# Altium schematic symbol library altium-lib-symbol.SchLib: 29 symbols
Pins are listed as number, name and electrical type; pins without a type are passive.

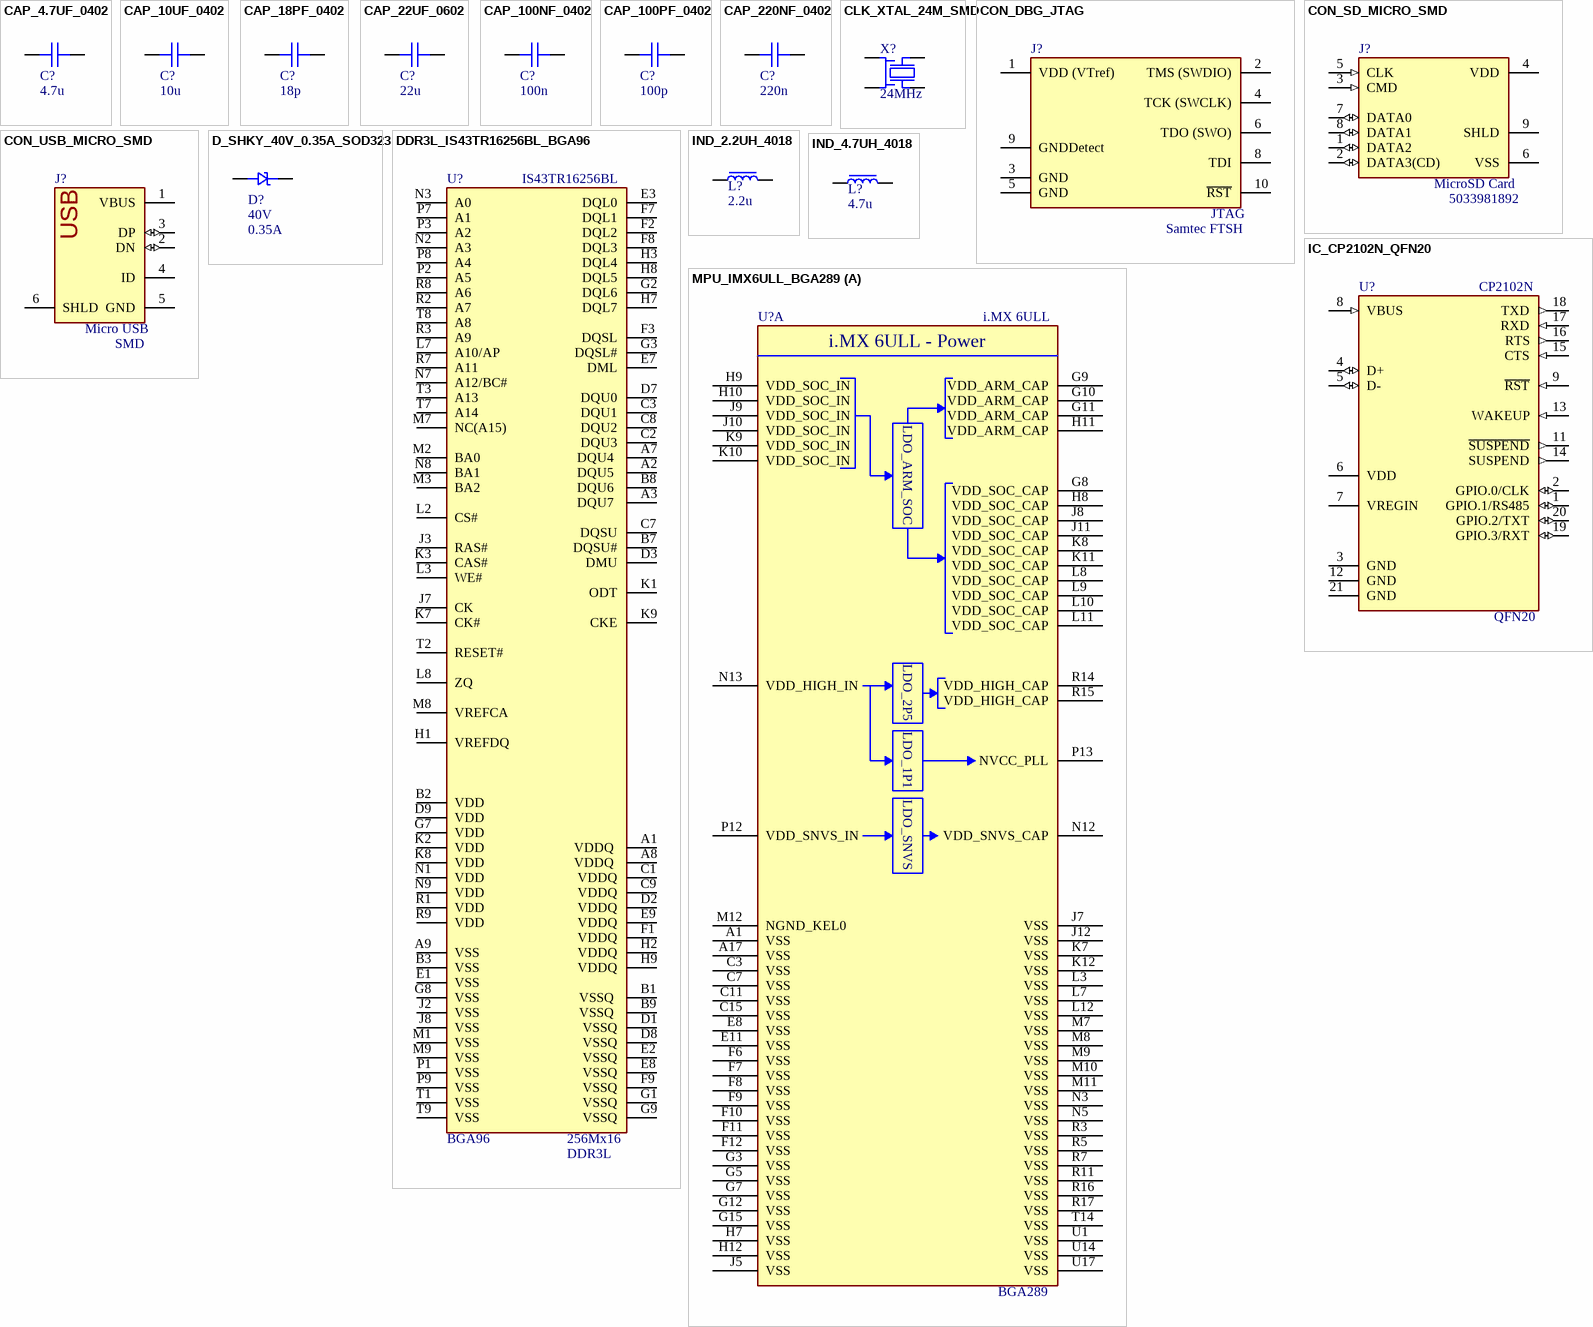
[diagram p0: symbols CAP_4.7UF_0402 to MPU_IMX6ULL_BGA289]

## CAP_4.7UF_0402
designator C?  5. Value 1: 4.7u  (hidden comment: *)
Capacitor, 4.7uF, 6.3V, 0402; 4. Manufacturer: Samsung Electro-Mechnics; 3. Product Number: CL05A475KQ5NRNC; 7. Value 3: X5R; 2. Footprint: 0603; 6. Value 2: 6.3V; 1. Function: Capacitor; 9. Creation Date: 25.03.2022; ComponentLink1Description: 8. Datasheet URL; ComponentLink1URL: https://datasheet.octopart.com/CL05A475KQ5NRNC-Samsung-datasheet-26589014.pdf
footprint CAP_0402 (Universal 0402 Capacitor Footprint)
pins: 1, 2

## CAP_10UF_0402
designator C?  5. Value 1: 10u  (hidden comment: *)
Capacitor, 10uF, 6.3V, 0402; 4. Manufacturer: Samsung Electro-Mechnics; 3. Product Number: CL05A106MQ5NUNC; 7. Value 3: X5R; 2. Footprint: 0603; 6. Value 2: 6.3V; 1. Function: Capacitor; 9. Creation Date: 25.03.2022; ComponentLink1Description: 8. Datasheet URL; ComponentLink1URL: https://datasheet.octopart.com/CL05A106MQ5NUNC-Samsung-datasheet-42280528.pdf
footprint CAP_0402 (Universal 0402 Capacitor Footprint)
pins: 1, 2

## CAP_18PF_0402
designator C?  5. Value 1: 18p  (hidden comment: *)
Capacitor, 18pF, 50V, 0402; 4. Manufacturer: KEMET; 3. Product Number: C0402C180J5GACTU; 2. Footprint: 0402; 6. Value 2: 50V; 1. Function: Capacitor; 7. Value 3: *; 9. Creation Date: 02.04.2022; ComponentLink1Description: 8. Datasheet URL; ComponentLink1URL: https://api.kemet.com/component-edge/download/specsheet/C0402C180J5GACTU.pdf
footprint CAP_0402 (Universal 0402 Capacitor Footprint)
pins: 1, 2

## CAP_22UF_0602
designator C?  5. Value 1: 22u  (hidden comment: *)
Capacitor, 22uF, 6.3V, 0603; 4. Manufacturer: Samsung Electro-Mechnics; 3. Product Number: CL10A226MQ8NRNC; 7. Value 3: X5R; 2. Footprint: 0603; 6. Value 2: 6.3V; 1. Function: Capacitor; 9. Creation Date: 18.03.2022; ComponentLink1Description: 8. Datasheet URL; ComponentLink1URL: https://datasheet.octopart.com/CL10A226MQ8NRNC-Samsung-Electro-Mechanics-datasheet-11788901.pdf
footprint CAP_0603 (Universal 0603 Capacitor Footprint)
pins: 1, 2

## CAP_100NF_0402
designator C?  5. Value 1: 100n  (hidden comment: *)
Capacitor, 100nF, 16V, 0402; 4. Manufacturer: Samsung Electro-Mechnics; 3. Product Number: CL05B104KO5NNNC; 7. Value 3: X7R; 2. Footprint: 0402; 6. Value 2: 16V; 1. Function: Capacitor; 9. Creation Date: 15.03.2022; ComponentLink1Description: 8. Datasheet URL; ComponentLink1URL: https://datasheet.octopart.com/CL05B104KO5NNNC-Samsung-Electro-Mechanics-datasheet-81461623.pdf
footprint CAP_0402 (Universal 0402 Capacitor Footprint)
pins: 1, 2

## CAP_100PF_0402
designator C?  5. Value 1: 100p  (hidden comment: *)
Capacitor, 100pF, 16V, 0402; 4. Manufacturer: Yageo; 3. Product Number: C0402C101K4GAC7867; 2. Footprint: 0402; 6. Value 2: 16V; 1. Function: Capacitor; 7. Value 3: *; 9. Creation Date: 15.03.2022; ComponentLink1Description: 8. Datasheet URL; ComponentLink1URL: https://www.yageo.com/upload/media/product/productsearch/datasheet/mlcc/UPY-GP_NP0_16V-to-50V_18.pdf
footprint CAP_0402 (Universal 0402 Capacitor Footprint)
pins: 1, 2

## CAP_220NF_0402
designator C?  5. Value 1: 220n  (hidden comment: *)
Capacitor, 220nF, 6.3V, 0402; 4. Manufacturer: Samsung Electro-Mechnics; 3. Product Number: CL05A224KQ5NNNC; 7. Value 3: X5R; 2. Footprint: 0603; 6. Value 2: 6.3V; 1. Function: Capacitor; 9. Creation Date: 25.03.2022; ComponentLink1Description: 8. Datasheet URL; ComponentLink1URL: https://datasheet.octopart.com/CL05A475KQ5NRNC-Samsung-datasheet-26589014.pdf
footprint CAP_0402 (Universal 0402 Capacitor Footprint)
pins: 1, 2

## CLK_XTAL_24M_SMD
designator X?  5. Value 1: 24MHz  (hidden comment: *)
Quartz crystal, 24 MHz; 4. Manufacturer: ECS; 3. Product Number: ECS-240-12-37B-CKY-TR; 2. Footprint: SMD; 6. Value 2: *; 1. Function: Crystal; 7. Value 3: *; 9. Creation Date: 02.04.2022; ComponentLink1Description: 8. Datasheet URL; ComponentLink1URL: https://ecsxtal.com/store/pdf/ECX-1637B.pdf
footprint CLK_2016 (SMD Clock generator, 2.0x1.6mm)
pins: 1, 2, 3, 4

## CON_DBG_JTAG
designator J?  2. Footprint: Samtec FTSH  5. Value 1: JTAG  (hidden comment: *)
JTAG Debug Connector; 4. Manufacturer: Samtec; 3. Product Number: FTSH-105-01-L-DV-007-K; 1. Function: JTAG Debug Connector; 9. Creation Date: 04.04.2022; ComponentLink1Description: 8. Datasheet URL; ComponentLink1URL: https://www.keil.com/support/man/docs/ulinkpro/ulinkpro_cs_connectors.htm#!#Cortex10Pin; 7. Value 3: *; 6. Value 2: *
footprint CON_FTSH_HDR_2x5 (Samtec FTSH Connector Header, 0.127mm, 2x5)
pins: 1 VDD (VTref), 2 TMS (SWDIO), 3 GND, 4 TCK (SWCLK), 5 GND, 6 TDO (SWO), 8 TDI, 9 GNDDetect, 10 ~{RST}

## CON_SD_MICRO_SMD
designator J?  3. Product Number: 5033981892  5. Value 1: MicroSD Card  (hidden comment: *)
MicroSD Card Holder; 4. Manufacturer: Molex; 2. Footprint: SMD; 1. Function: MicroSD Card Holder; 9. Creation Date: 04.04.2022; ComponentLink1Description: 8. Datasheet URL; ComponentLink1URL: https://www.molex.com/pdm_docs/sd/5033981892_sd.pdf; 7. Value 3: *; 6. Value 2: *
footprint CON_SD_MICRO (MicroSD Card Holder)
pins: 1 DATA2 (io), 2 DATA3(CD) (io), 3 CMD (in), 4 VDD (power), 5 CLK (in), 6 VSS (power), 7 DATA0 (io), 8 DATA1 (io), 9 SHLD (power)

## CON_USB_MICRO_SMD
designator J?  2. Footprint: SMD  5. Value 1: Micro USB  (hidden comment: *)
Micro USB Connector; 4. Manufacturer: Amphenol CS; 3. Product Number: 10118194-0001LF; 1. Function: Micro USB Connector; 9. Creation Date: 02.04.2022; ComponentLink1Description: 8. Datasheet URL; ComponentLink1URL: https://cdn.amphenol-cs.com/media/wysiwyg/files/drawing/10118194.pdf; 7. Value 3: *; 6. Value 2: *
footprint CON_USB_MICROB (Micro B USB Connector)
pins: 1 VBUS (power), 2 DN (io), 3 DP (io), 4 ID, 5 GND (power), 6 SHLD (power)
text: USB

## D_SHKY_40V_0.35A_SOD323
designator D?  6. Value 2: 0.35A  5. Value 1: 40V  (hidden comment: *)
Schottky Diode, 40V, 0.35A, SOD323; 4. Manufacturer: Vishay; 3. Product Number: SD103AWS-HE3-08; 1. Function: Schottky Diode; 7. Value 3: *; 9. Creation Date: 04.04.2022; 2. Footprint: SOD323; ComponentLink1Description: 8. Datasheet URL; ComponentLink1URL: https://www.vishay.com/docs/85682/sd103aws.pdf
footprint SOD323 (Diode SOD323)
pins: A, K

## DDR3L_IS43TR16256BL_BGA96
designator U?  7. Value 3: DDR3L  6. Value 2: 256Mx16  2. Footprint: BGA96  5. Value 1: IS43TR16256BL  (hidden comment: *)
DDR3L RAM, 256Mx16, 4Gb, BGA96; 4. Manufacturer: ISSI; 3. Product Number: IS43TR16256BL; 1. Function: DDR3L RAM; 9. Creation Date: 25.03.2022; ComponentLink1Description: 8. Datasheet URL; ComponentLink1URL: https://www.issi.com/WW/pdf/43-46TR16256B-85120BL.pdf
footprint BGA96 (DDR3L) (BGA96, 0.8mm)
pins: A1 VDDQ , A2 DQU5 , A3 DQU7 , A7 DQU4 , A8 VDDQ , A9 VSS , B1 VSSQ , B2 VDD , B3 VSS , B7 DQSU#, B8 DQU6 , B9 VSSQ , C1 VDDQ, C2 DQU3, C3 DQU1, C7 DQSU, C8 DQU2, C9 VDDQ, D1 VSSQ, D2 VDDQ, D3 DMU, D7 DQU0, D8 VSSQ, D9 VDD, E1 VSS, E2 VSSQ, E3 DQL0, E7 DML, E8 VSSQ, E9 VDDQ, F1 VDDQ, F2 DQL2, F3 DQSL, F7 DQL1, F8 DQL3, F9 VSSQ, G1 VSSQ, G2 DQL6, G3 DQSL#, G7 VDD, G8 VSS, G9 VSSQ, H1 VREFDQ, H2 VDDQ, H3 DQL4, H7 DQL7, H8 DQL5, H9 VDDQ, J2 VSS, J3 RAS#, J7 CK, J8 VSS, K1 ODT, K2 VDD, K3 CAS#, K7 CK#, K8 VDD, K9 CKE, L2 CS#, L3 WE#, L7 A10/AP, L8 ZQ, M1 VSS, M2 BA0, M3 BA2, M7 NC(A15), M8 VREFCA, M9 VSS, N1 VDD, N2 A3, N3 A0, N7 A12/BC#, N8 BA1, N9 VDD, P1 VSS, P2 A5, P3 A2, P7 A1, P8 A4, P9 VSS, R1 VDD, R2 A7, R3 A9, R7 A11, R8 A6, R9 VDD, T1 VSS, T2 RESET#, T3 A13, T7 A14, T8 A8, T9 VSS, VDDQ  180 hidden to Passive

## IC_CP2102N_QFN20
designator U?  2. Footprint: QFN20  5. Value 1: CP2102N  (hidden comment: *)
USB to UART Bridge, QFN20; 4. Manufacturer: Silicon Labs; 3. Product Number: CP2102N-A02-GQFN20; 1. Function: USB to UART Bridge; 9. Creation Date: 02.04.2022; ComponentLink1Description: 8. Datasheet URL; ComponentLink1URL: https://www.silabs.com/documents/public/data-sheets/cp2102n-datasheet.pdf; 7. Value 3: *; 6. Value 2: *
footprint QFN20 (Silabs) (QFN20, 0.5mm, Silabs)
pins: 1 GPIO.1/RS485 (io), 2 GPIO.0/CLK (io), 3 GND (power), 4 D+ (io), 5 D- (io), 6 VDD (power), 7 VREGIN (power), 8 VBUS (in), 9 ~{RST} (in), 11 ~{SUSPEND} (out), 12 GND (power), 13 WAKEUP (in), 14 SUSPEND (out), 15 CTS (in), 16 RTS (out), 17 RXD (in), 18 TXD (out), 19 GPIO.3/RXT (io), 20 GPIO.2/TXT (io), 21 GND (power)

## IND_2.2UH_4018
designator L?  5. Value 1: 2.2u  (hidden comment: *)
Inductor, 2.2uH, 2.2A, 42mR, 4018; 4. Manufacturer: Taiyo Yuden; 3. Product Number: NRS4018T2R2MDGJ; 2. Footprint: 4018; 6. Value 2: 2.2A; 1. Function: Inductor; 7. Value 3: 42mR; 9. Creation Date: 15.03.2022; ComponentLink1Description: 8. Datasheet URL; ComponentLink1URL: https://www.yuden.co.jp/productdata/catalog/wound04_e.pdf
footprint IND_4018 (Inductor, 2018, Taiyo Yuden)
pins: 1, 2

## IND_4.7UH_4018
designator L?  5. Value 1: 4.7u  (hidden comment: *)
Inductor, 4.7uH, 1.7A, 84mR, 4018; 4. Manufacturer: Taiyo Yuden; 3. Product Number: NRS4018T4R7MDGJ; 7. Value 3: 83mR; 2. Footprint: 4018; 6. Value 2: 1.7A; 1. Function: Inductor; 9. Creation Date: 20.03.2022; ComponentLink1Description: 8. Datasheet URL; ComponentLink1URL: https://www.yuden.co.jp/productdata/catalog/wound04_e.pdf
footprint IND_4018 (Inductor, 2018, Taiyo Yuden)
pins: 1, 2

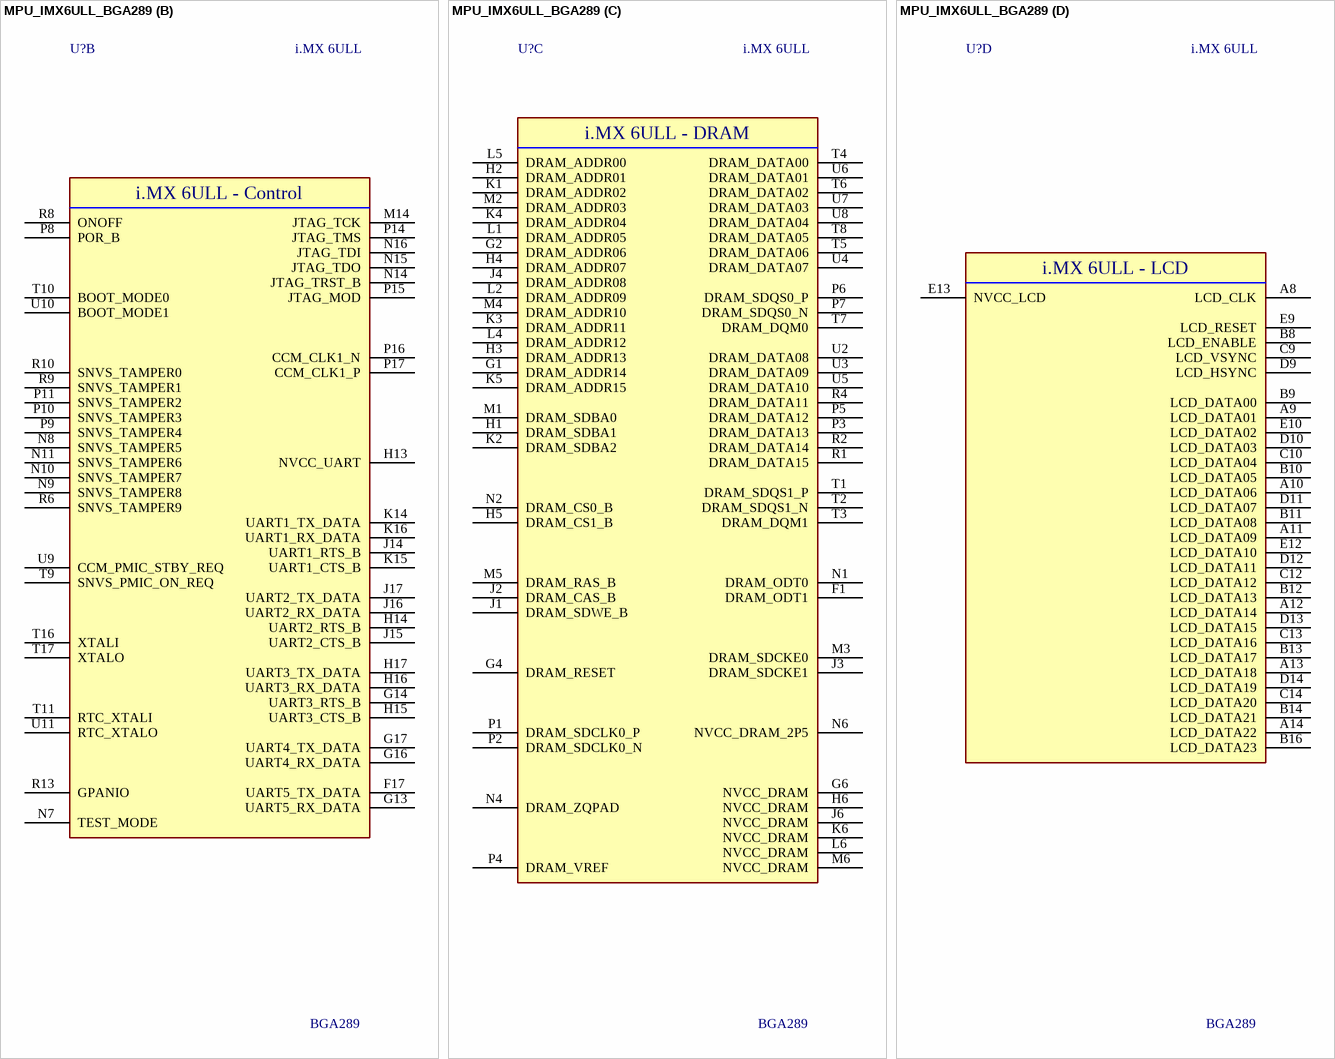
[diagram p1: symbol MPU_IMX6ULL_BGA289]

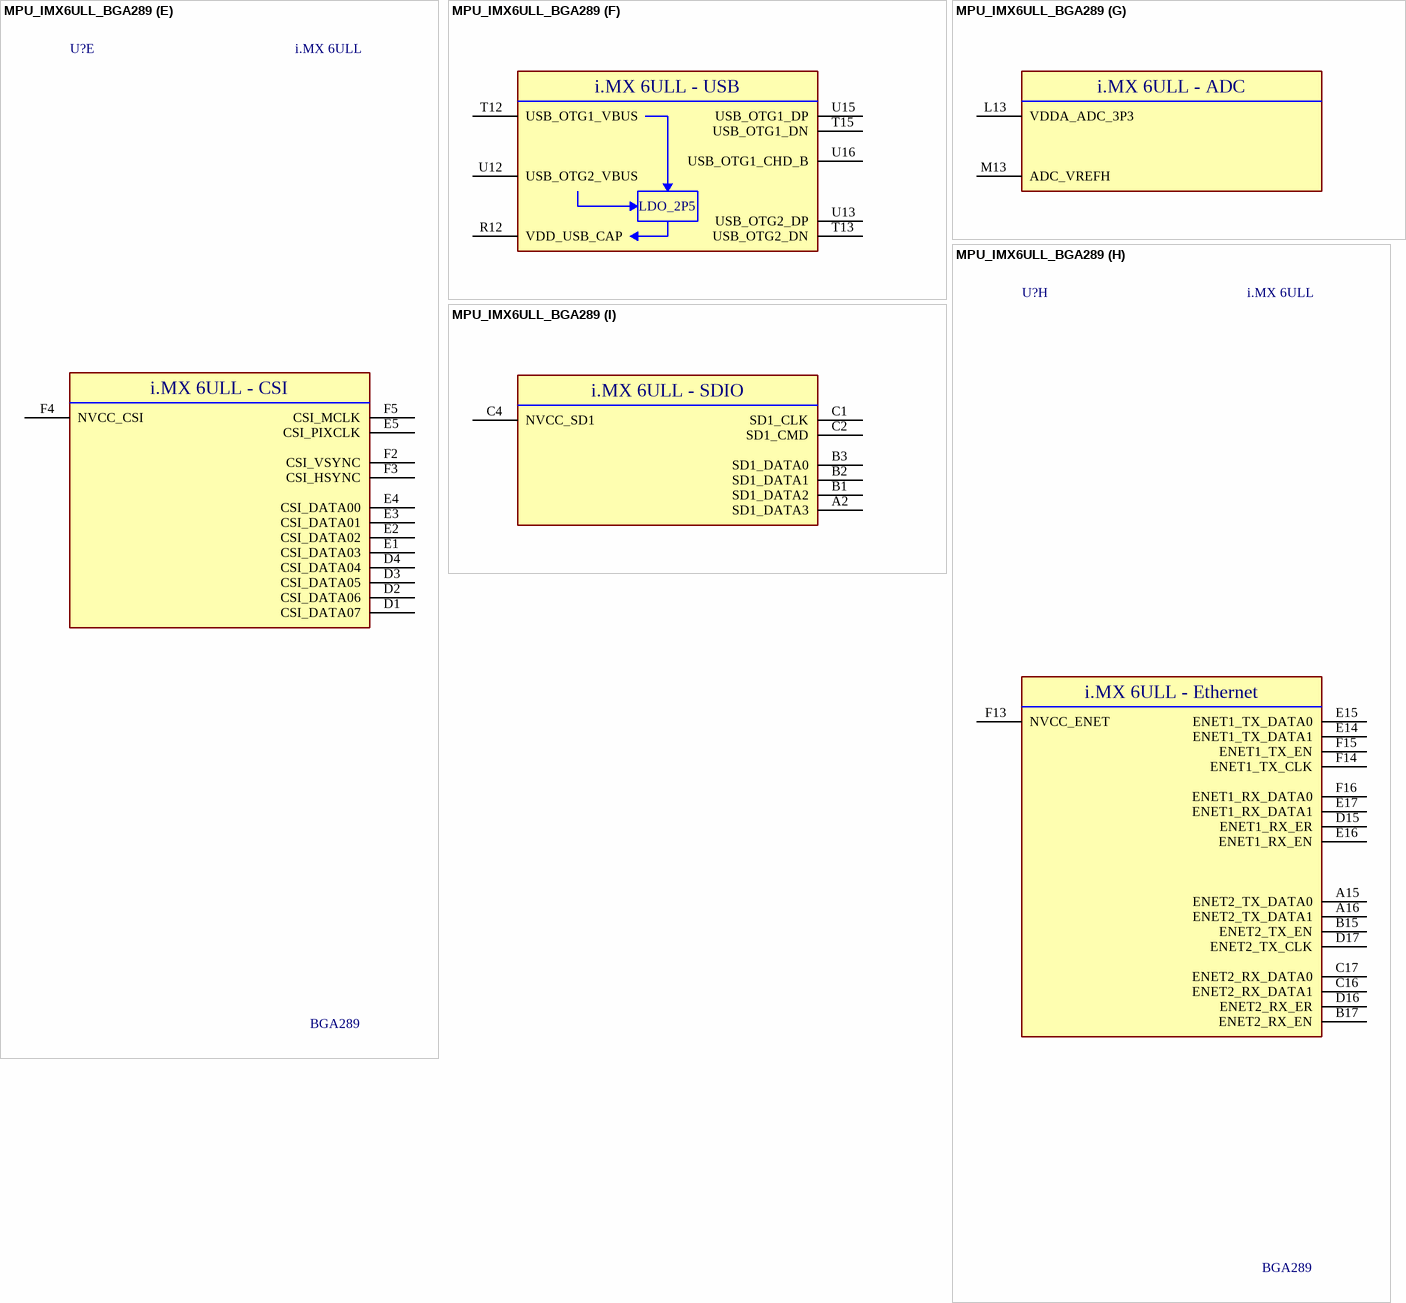
[diagram p2: symbol MPU_IMX6ULL_BGA289]

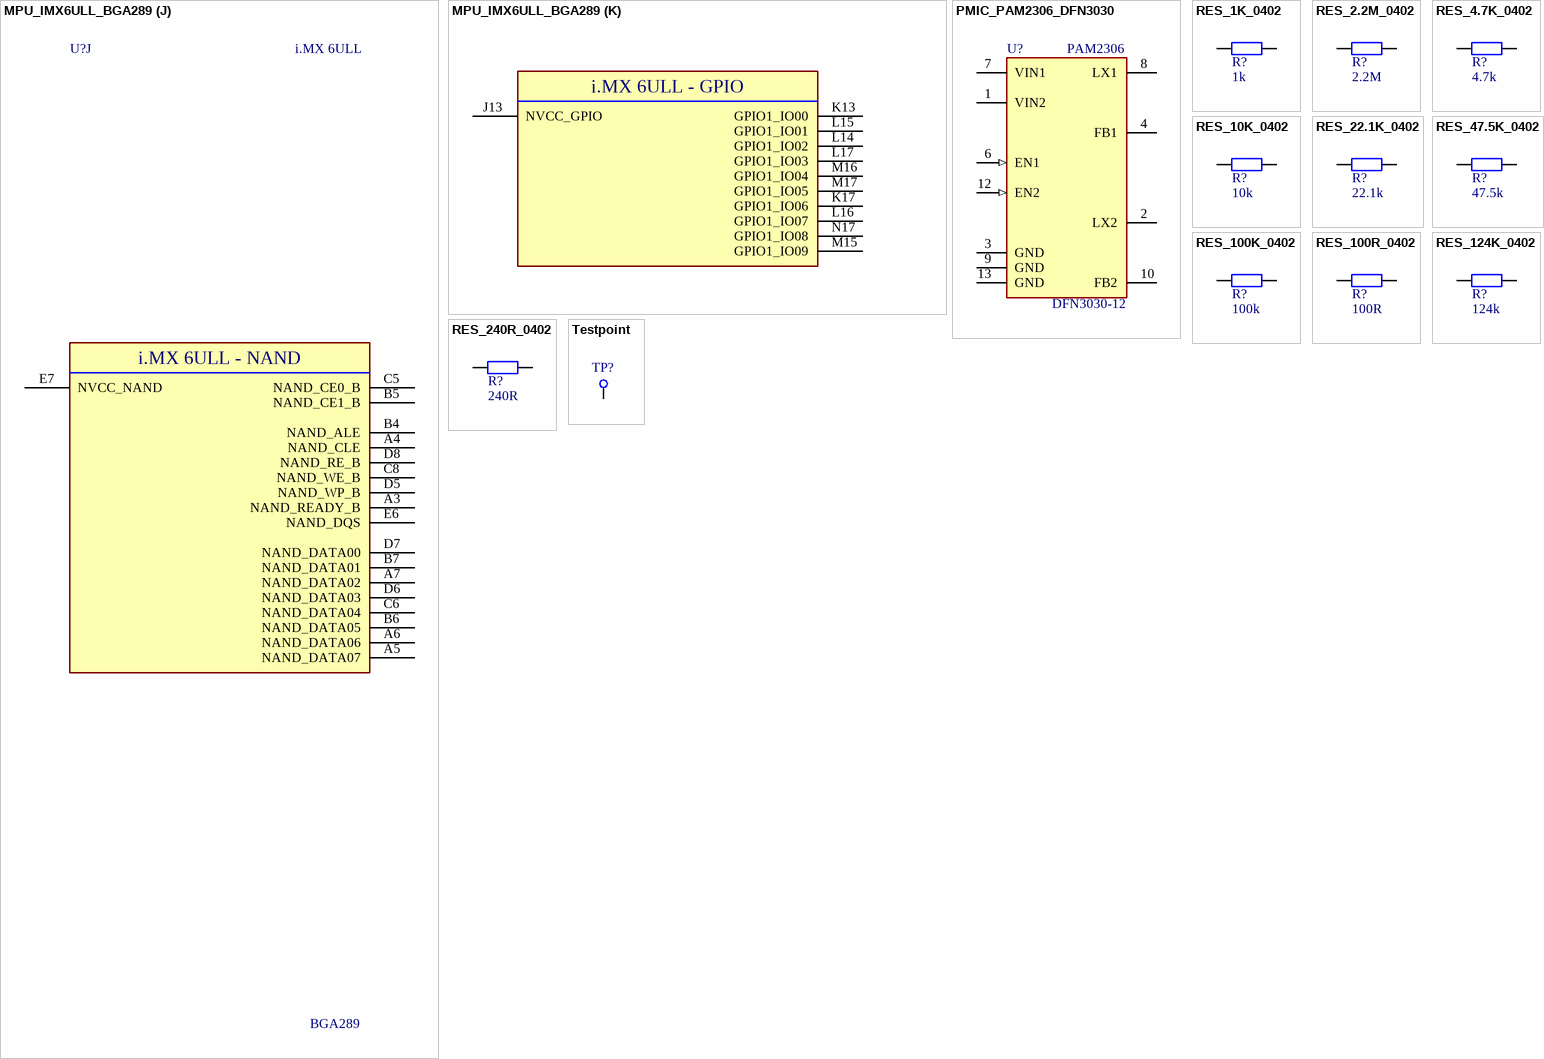
[diagram p3: symbols MPU_IMX6ULL_BGA289 to Testpoint]

## MPU_IMX6ULL_BGA289
designator U?  2. Footprint: BGA289  5. Value 1: i.MX 6ULL  (hidden comment: *)
Microprocessor, NXP i.MX 6ULL, ARM Cortex-A7, BGA289; 6. Value 2: ARM-Cortex A7; 3. Product Number: MCIMX6Y2DVM05AB; 1. Function: Microprocessor; 4. Manufacturer: NXP; 9. Creation Date: 20.03.2022; ComponentLink1Description: 8. Datasheet URL; ComponentLink1URL: https://www.nxp.com/docs/en/data-sheet/IMX6ULLCEC.pdf; 7. Value 3: *
footprint BGA289 (IMX6ULL) (BGA289, 0.8mm, IMX6ULL)
part A pins: A1 VSS (power), A17 VSS (power), C3 VSS (power), C7 VSS (power), C11 VSS (power), C15 VSS (power), E8 VSS (power), E11 VSS (power), F6 VSS (power), F7 VSS (power), F8 VSS (power), F9 VSS (power), F10 VSS (power), F11 VSS (power), F12 VSS (power), G3 VSS (power), G5 VSS (power), G7 VSS (power), G8 VDD_SOC_CAP (power), G9 VDD_ARM_CAP (power), G10 VDD_ARM_CAP (power), G11 VDD_ARM_CAP (power), G12 VSS (power), G15 VSS (power), H7 VSS (power), H8 VDD_SOC_CAP (power), H9 VDD_SOC_IN (power), H10 VDD_SOC_IN (power), H11 VDD_ARM_CAP (power), H12 VSS (power), J5 VSS (power), J7 VSS (power), J8 VDD_SOC_CAP (power), J9 VDD_SOC_IN (power), J10 VDD_SOC_IN (power), J11 VDD_SOC_CAP (power), J12 VSS (power), K7 VSS (power), K8 VDD_SOC_CAP (power), K9 VDD_SOC_IN (power), K10 VDD_SOC_IN (power), K11 VDD_SOC_CAP (power), K12 VSS (power), L3 VSS (power), L7 VSS (power), L8 VDD_SOC_CAP (power), L9 VDD_SOC_CAP (power), L10 VDD_SOC_CAP (power), L11 VDD_SOC_CAP (power), L12 VSS (power), M7 VSS (power), M8 VSS (power), M9 VSS (power), M10 VSS (power), M11 VSS (power), M12 NGND_KEL0, N3 VSS (power), N5 VSS (power), N12 VDD_SNVS_CAP (power), N13 VDD_HIGH_IN (power), P12 VDD_SNVS_IN (power), P13 NVCC_PLL, R3 VSS (power), R5 VSS (power), R7 VSS (power), R11 VSS (power), R14 VDD_HIGH_CAP (power), R15 VDD_HIGH_CAP (power), R16 VSS (power), R17 VSS (power), T14 VSS (power), U1 VSS (power), U14 VSS (power), U17 VSS (power)
part B pins: F17 UART5_TX_DATA, G13 UART5_RX_DATA, G14 UART3_RTS_B, G16 UART4_RX_DATA, G17 UART4_TX_DATA, H13 NVCC_UART, H14 UART2_RTS_B, H15 UART3_CTS_B, H16 UART3_RX_DATA, H17 UART3_TX_DATA, J14 UART1_RTS_B, J15 UART2_CTS_B, J16 UART2_RX_DATA, J17 UART2_TX_DATA, K14 UART1_TX_DATA, K15 UART1_CTS_B, K16 UART1_RX_DATA, M14 JTAG_TCK, N7 TEST_MODE, N8 SNVS_TAMPER5, N9 SNVS_TAMPER8, N10 SNVS_TAMPER7, N11 SNVS_TAMPER6, N14 JTAG_TRST_B, N15 JTAG_TDO, N16 JTAG_TDI, P8 POR_B, P9 SNVS_TAMPER4, P10 SNVS_TAMPER3, P11 SNVS_TAMPER2, P14 JTAG_TMS, P15 JTAG_MOD, P16 CCM_CLK1_N, P17 CCM_CLK1_P, R6 SNVS_TAMPER9, R8 ONOFF, R9 SNVS_TAMPER1, R10 SNVS_TAMPER0, R13 GPANIO, T9 SNVS_PMIC_ON_REQ, T10 BOOT_MODE0, T11 RTC_XTALI, T16 XTALI, T17 XTALO, U9 CCM_PMIC_STBY_REQ, U10 BOOT_MODE1, U11 RTC_XTALO
part C pins: F1 DRAM_ODT1, G1 DRAM_ADDR14, G2 DRAM_ADDR06, G4 DRAM_RESET, G6 NVCC_DRAM (power), H1 DRAM_SDBA1, H2 DRAM_ADDR01, H3 DRAM_ADDR13, H4 DRAM_ADDR07, H5 DRAM_CS1_B, H6 NVCC_DRAM (power), J1 DRAM_SDWE_B, J2 DRAM_CAS_B, J3 DRAM_SDCKE1, J4 DRAM_ADDR08, J6 NVCC_DRAM (power), K1 DRAM_ADDR02, K2 DRAM_SDBA2, K3 DRAM_ADDR11, K4 DRAM_ADDR04, K5 DRAM_ADDR15, K6 NVCC_DRAM (power), L1 DRAM_ADDR05, L2 DRAM_ADDR09, L4 DRAM_ADDR12, L5 DRAM_ADDR00, L6 NVCC_DRAM (power), M1 DRAM_SDBA0, M2 DRAM_ADDR03, M3 DRAM_SDCKE0, M4 DRAM_ADDR10, M5 DRAM_RAS_B, M6 NVCC_DRAM (power), N1 DRAM_ODT0, N2 DRAM_CS0_B, N4 DRAM_ZQPAD, N6 NVCC_DRAM_2P5 (power), P1 DRAM_SDCLK0_P, P2 DRAM_SDCLK0_N, P3 DRAM_DATA13, P4 DRAM_VREF, P5 DRAM_DATA12, P6 DRAM_SDQS0_P, P7 DRAM_SDQS0_N, R1 DRAM_DATA15, R2 DRAM_DATA14, R4 DRAM_DATA11, T1 DRAM_SDQS1_P, T2 DRAM_SDQS1_N, T3 DRAM_DQM1, T4 DRAM_DATA00, T5 DRAM_DATA06, T6 DRAM_DATA02, T7 DRAM_DQM0, T8 DRAM_DATA05, U2 DRAM_DATA08, U3 DRAM_DATA09, U4 DRAM_DATA07, U5 DRAM_DATA10, U6 DRAM_DATA01, U7 DRAM_DATA03, U8 DRAM_DATA04
part D pins: A8 LCD_CLK, A9 LCD_DATA01, A10 LCD_DATA06, A11 LCD_DATA09, A12 LCD_DATA14, A13 LCD_DATA18, A14 LCD_DATA22, B8 LCD_ENABLE, B9 LCD_DATA00, B10 LCD_DATA05, B11 LCD_DATA08, B12 LCD_DATA13, B13 LCD_DATA17, B14 LCD_DATA21, B16 LCD_DATA23, C9 LCD_VSYNC, C10 LCD_DATA04, C12 LCD_DATA12, C13 LCD_DATA16, C14 LCD_DATA20, D9 LCD_HSYNC, D10 LCD_DATA03, D11 LCD_DATA07, D12 LCD_DATA11, D13 LCD_DATA15, D14 LCD_DATA19, E9 LCD_RESET, E10 LCD_DATA02, E12 LCD_DATA10, E13 NVCC_LCD
part E pins: D1 CSI_DATA07, D2 CSI_DATA06, D3 CSI_DATA05, D4 CSI_DATA04, E1 CSI_DATA03, E2 CSI_DATA02, E3 CSI_DATA01, E4 CSI_DATA00, E5 CSI_PIXCLK, F2 CSI_VSYNC, F3 CSI_HSYNC, F4 NVCC_CSI, F5 CSI_MCLK
part F pins: R12 VDD_USB_CAP (power), T12 USB_OTG1_VBUS, T13 USB_OTG2_DN, T15 USB_OTG1_DN, U12 USB_OTG2_VBUS, U13 USB_OTG2_DP, U15 USB_OTG1_DP, U16 USB_OTG1_CHD_B
part G pins: L13 VDDA_ADC_3P3 (power), M13 ADC_VREFH
part H pins: A15 ENET2_TX_DATA0, A16 ENET2_TX_DATA1, B15 ENET2_TX_EN, B17 ENET2_RX_EN, C16 ENET2_RX_DATA1, C17 ENET2_RX_DATA0, D15 ENET1_RX_ER, D16 ENET2_RX_ER, D17 ENET2_TX_CLK, E14 ENET1_TX_DATA1, E15 ENET1_TX_DATA0, E16 ENET1_RX_EN, E17 ENET1_RX_DATA1, F13 NVCC_ENET, F14 ENET1_TX_CLK, F15 ENET1_TX_EN, F16 ENET1_RX_DATA0
part I pins: A2 SD1_DATA3, B1 SD1_DATA2, B2 SD1_DATA1, B3 SD1_DATA0, C1 SD1_CLK, C2 SD1_CMD, C4 NVCC_SD1
part J pins: A3 NAND_READY_B, A4 NAND_CLE, A5 NAND_DATA07, A6 NAND_DATA06, A7 NAND_DATA02, B4 NAND_ALE, B5 NAND_CE1_B, B6 NAND_DATA05, B7 NAND_DATA01, C5 NAND_CE0_B, C6 NAND_DATA04, C8 NAND_WE_B, D5 NAND_WP_B, D6 NAND_DATA03, D7 NAND_DATA00, D8 NAND_RE_B, E6 NAND_DQS, E7 NVCC_NAND
part K pins: J13 NVCC_GPIO, K13 GPIO1_IO00, K17 GPIO1_IO06, L14 GPIO1_IO02, L15 GPIO1_IO01, L16 GPIO1_IO07, L17 GPIO1_IO03, M15 GPIO1_IO09, M16 GPIO1_IO04, M17 GPIO1_IO05, N17 GPIO1_IO08
part A text: i.MX 6ULL - Power; LDO_ARM_SOC; LDO_2P5; LDO_1P1; LDO_SNVS
part B text: i.MX 6ULL - Control
part C text: i.MX 6ULL - DRAM
part D text: i.MX 6ULL - LCD
part E text: i.MX 6ULL - CSI
part F text: i.MX 6ULL - USB; LDO_2P5
part G text: i.MX 6ULL - ADC
part H text: i.MX 6ULL - Ethernet
part I text: i.MX 6ULL - SDIO
part J text: i.MX 6ULL - NAND
part K text: i.MX 6ULL - GPIO

## PMIC_PAM2306_DFN3030
designator U?  2. Footprint: DFN3030-12  5. Value 1: PAM2306  (hidden comment: *)
Dual Channel Buck Converter; 4. Manufacturer: Diodes Inc.; 3. Product Number: PAM2306DYPAA; 1. Function: Buck Converter; 9. Creation Date: 15.03.2022; ComponentLink1Description: 8. Datasheet URL; ComponentLink1URL: https://www.diodes.com/assets/Datasheets/PAM2306.pdf; 7. Value 3: *; 6. Value 2: *
footprint DFN3030-12 (DFN3030-12, Diodes Inc.)
pins: 1 VIN2 (power), 2 LX2, 3 GND (power), 4 FB1, 6 EN1 (in), 7 VIN1 (power), 8 LX1, 9 GND (power), 10 FB2, 12 EN2 (in), 13 GND (power)

## RES_1K_0402
designator R?  5. Value 1: 1k  (hidden comment: *)
Resistor, 1k, 1/16W, 0402; 4. Manufacturer: Yageo; 6. Value 2: 1%; 3. Product Number: RC0402FR-071KL; 2. Footprint: 0402; 1. Function: Resistor; 7. Value 3: 1/16W; 9. Creation Date: 28.03.2022; ComponentLink1Description: 8. Datasheet URL; ComponentLink1URL: https://www.yageo.com/upload/media/product/productsearch/datasheet/rchip/PYu-RC_Group_51_RoHS_L_11.pdf
footprint RES_0402 (Universal 0402 Resistor Footprint)
pins: 1, 2

## RES_2.2M_0402
designator R?  5. Value 1: 2.2M  (hidden comment: *)
Resistor, 2.2M, 1/16W, 0402; 4. Manufacturer: Yageo; 6. Value 2: 1%; 3. Product Number: RC0402FR-072M2L; 2. Footprint: 0402; 1. Function: Resistor; 7. Value 3: 1/16W; 9. Creation Date: 02.04.2022; ComponentLink1Description: 8. Datasheet URL; ComponentLink1URL: https://www.yageo.com/upload/media/product/productsearch/datasheet/rchip/PYu-RC_Group_51_RoHS_L_11.pdf
footprint RES_0402 (Universal 0402 Resistor Footprint)
pins: 1, 2

## RES_4.7K_0402
designator R?  5. Value 1: 4.7k  (hidden comment: *)
Resistor, 4.7k, 1/16W, 0402; 4. Manufacturer: Yageo; 6. Value 2: 1%; 3. Product Number: RC0402FR-074K7L; 2. Footprint: 0402; 1. Function: Resistor; 7. Value 3: 1/16W; 9. Creation Date: 04.04.2022; ComponentLink1Description: 8. Datasheet URL; ComponentLink1URL: https://www.yageo.com/upload/media/product/productsearch/datasheet/rchip/PYu-RC_Group_51_RoHS_L_11.pdf
footprint RES_0402 (Universal 0402 Resistor Footprint)
pins: 1, 2

## RES_10K_0402
designator R?  5. Value 1: 10k  (hidden comment: *)
Resistor, 10k, 1/16W, 0402; 4. Manufacturer: Yageo; 6. Value 2: 1%; 3. Product Number: RC0402FR-0710KL; 2. Footprint: 0402; 1. Function: Resistor; 7. Value 3: 1/16W; 9. Creation Date: 15.03.2022; ComponentLink1Description: 8. Datasheet URL; ComponentLink1URL: https://www.yageo.com/upload/media/product/productsearch/datasheet/rchip/PYu-RC_Group_51_RoHS_L_11.pdf
footprint RES_0402 (Universal 0402 Resistor Footprint)
pins: 1, 2

## RES_22.1K_0402
designator R?  5. Value 1: 22.1k  (hidden comment: *)
Resistor, 22.1k, 1/16W, 0402; 4. Manufacturer: Yageo; 6. Value 2: 1%; 3. Product Number: RC0402FR-0722K1L; 2. Footprint: 0402; 1. Function: Resistor; 7. Value 3: 1/16W; 9. Creation Date: 04.04.2022; ComponentLink1Description: 8. Datasheet URL; ComponentLink1URL: https://www.yageo.com/upload/media/product/productsearch/datasheet/rchip/PYu-RC_Group_51_RoHS_L_11.pdf
footprint RES_0402 (Universal 0402 Resistor Footprint)
pins: 1, 2

## RES_47.5K_0402
designator R?  5. Value 1: 47.5k  (hidden comment: *)
Resistor, 47.5k, 1/16W, 0402; 4. Manufacturer: Yageo; 6. Value 2: 1%; 3. Product Number: RC0402FR-0747K5L; 2. Footprint: 0402; 1. Function: Resistor; 7. Value 3: 1/16W; 9. Creation Date: 04.04.2022; ComponentLink1Description: 8. Datasheet URL; ComponentLink1URL: https://www.yageo.com/upload/media/product/productsearch/datasheet/rchip/PYu-RC_Group_51_RoHS_L_11.pdf
footprint RES_0402 (Universal 0402 Resistor Footprint)
pins: 1, 2

## RES_100K_0402
designator R?  5. Value 1: 100k  (hidden comment: *)
Resistor, 100k, 1/16W, 0402; 4. Manufacturer: Yageo; 6. Value 2: 1%; 3. Product Number: RC0402FR-07100KL; 2. Footprint: 0402; 1. Function: Resistor; 7. Value 3: 1/16W; 9. Creation Date: 15.03.2022; ComponentLink1Description: 8. Datasheet URL; ComponentLink1URL: https://www.yageo.com/upload/media/product/productsearch/datasheet/rchip/PYu-RC_Group_51_RoHS_L_11.pdf
footprint RES_0402 (Universal 0402 Resistor Footprint)
pins: 1, 2

## RES_100R_0402
designator R?  5. Value 1: 100R  (hidden comment: *)
Resistor, 100R, 1/16W, 0402; 4. Manufacturer: Yageo; 6. Value 2: 1%; 3. Product Number: RC0402FR-07100RL; 2. Footprint: 0402; 1. Function: Resistor; 7. Value 3: 1/16W; 9. Creation Date: 28.03.2022; ComponentLink1Description: 8. Datasheet URL; ComponentLink1URL: https://www.yageo.com/upload/media/product/productsearch/datasheet/rchip/PYu-RC_Group_51_RoHS_L_11.pdf
footprint RES_0402 (Universal 0402 Resistor Footprint)
pins: 1, 2

## RES_124K_0402
designator R?  5. Value 1: 124k  (hidden comment: *)
Resistor, 124k, 1/16W, 0402; 4. Manufacturer: Yageo; 6. Value 2: 1%; 3. Product Number: RC0402FR-07124KL; 2. Footprint: 0402; 1. Function: Resistor; 7. Value 3: 1/16W; 9. Creation Date: 02.04.2022; ComponentLink1Description: 8. Datasheet URL; ComponentLink1URL: https://www.yageo.com/upload/media/product/productsearch/datasheet/rchip/PYu-RC_Group_51_RoHS_L_11.pdf
footprint RES_0402 (Universal 0402 Resistor Footprint)
pins: 1, 2

## RES_240R_0402
designator R?  5. Value 1: 240R  (hidden comment: *)
Resistor, 240R, 1/16W, 0402; 4. Manufacturer: Yageo; 6. Value 2: 1%; 3. Product Number: RC0402FR-07240RL; 2. Footprint: 0402; 1. Function: Resistor; 7. Value 3: 1/16W; 9. Creation Date: 28.02.2022; ComponentLink1Description: 8. Datasheet URL; ComponentLink1URL: https://www.yageo.com/upload/media/product/productsearch/datasheet/rchip/PYu-RC_Group_51_RoHS_L_11.pdf
footprint RES_0402 (Universal 0402 Resistor Footprint)
pins: 1, 2

## Testpoint
designator TP?  (value not drawn)  (no BOM)
Testpoint 1mm
footprint Testpoint (Testpoint 1mm)
pins: 1